# EAGLE library part LIS331HH (library LIS331HH)
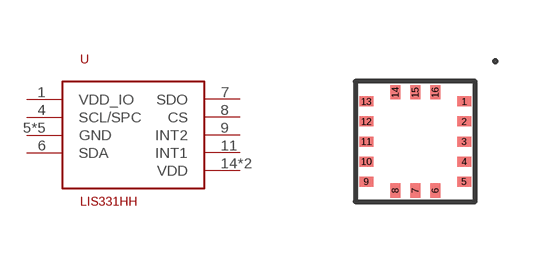
[diagram p0: symbol with the pads of LIS331HH; footprint LIS331HH]

Designator prefix -

## LIS331HH  [LIS331HH]
1  VDD_IO
4  SCL/SPC
5  GND
6  SDA
7  SDO
8  CS
9  INT2
10  GND
11  INT1
12  GND
13  GND
14  VDD
15  VDD
16  GND

## Footprint LIS331HH (pad centres in mm)
smd 0.35 x 0.25: 1 2.725,2.5; 2 2.725,2; 3 2.725,1.5; 4 2.725,1; 5 2.725,0.5; 9 0.275,0.5; 10 0.275,1; 11 0.275,1.5; 12 0.275,2; 13 0.275,2.5
smd 0.25 x 0.35: 6 2,0.275; 7 1.5,0.275; 8 1,0.275; 14 1,2.725; 15 1.5,2.725; 16 2,2.725